# Altium integrated library RJ45_HRK1-1B72F09.IntLib: 1 symbol
Pins are listed as number, name and electrical type; pins without a type are passive.

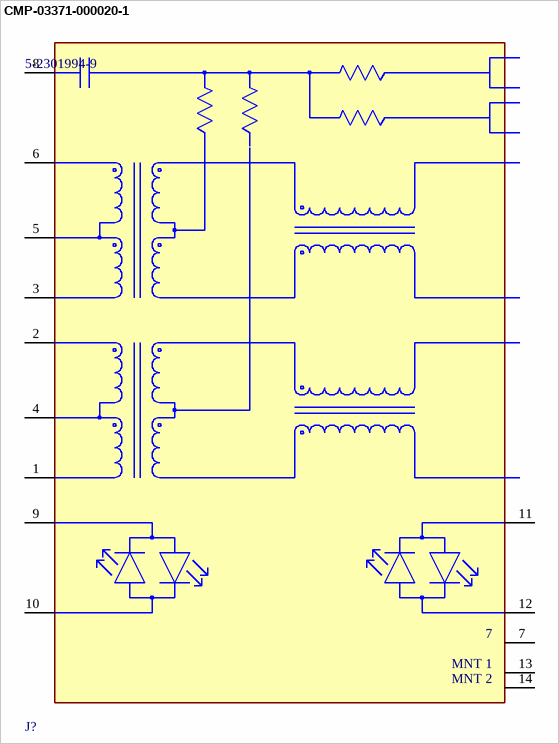
[diagram p0: symbol CMP-03371-000020-1]

## CMP-03371-000020-1
designator J?, comment 5-2301994-9
CONN JACK 1PORT 100 BASE-T PCB; Connector Type: RJ45; Number of Ports: 1; Number of Cores per Jack: 4; Direction: Up; Shielding: Shielded; Max Operating Temperature: 85°C; Number of Rows: 1; Termination: Solder; Housing Material: Polymer; RoHS Compliant: Yes; Packaging: Tray; Color: Green; Min Operating Temperature: -40°C; Contact Material: Copper Alloy; Mount: Through Hole; Contact Plating: Gold
footprint FP-5-2301994-9-MFG
pins: 1, 2, 3, 4, 5, 6, 7, 8, 9 1 CATHODE YELLOW/ANODE GREEN, 10 1 ANODE YELLOW/CATHODE GREEN, 11 2 CATHODE YELLOW/ANODE GREEN, 12 2 ANODE YELLOW/CATHODE GREEN, 13 MNT 1, 14 MNT 2